# EAGLE library part 0821-1X1T-43-F (library Modular Jacks)
CONN MAGJACK 1PORT 1000 BASE-T Manufacturer's datasheet <https://belfuse.com/resources/drawings/magneticsolutions/dr-mag-0821-1x1t-43-f.pdf>
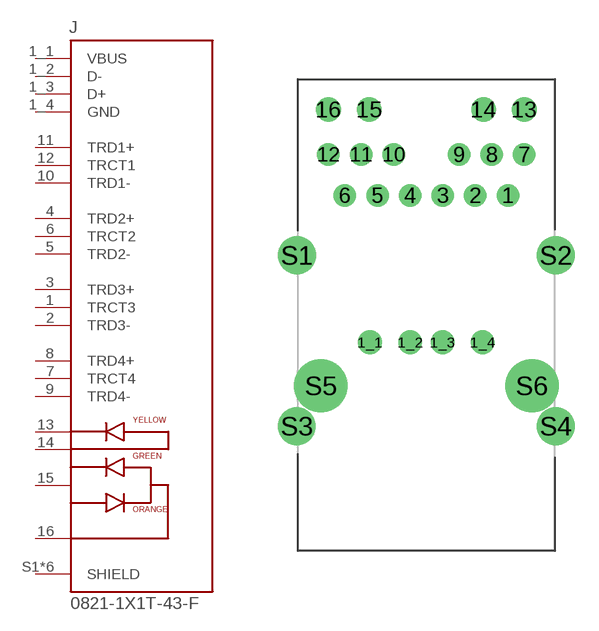
[diagram p9: symbol with the pads of 0821-1X1T-43-F; footprint 0821-1X1T-43-F]

Designator prefix J

## 0821-1X1T-43-F (CREATED_BY: PCBLayout.com; DIGIKEY_PARTNO: 507-1567-ND; MANUFACTURER: Bel Fuse Inc.; MPN: 0821-1X1T-43-F)  [0821-1X1T-43-F]
1  TRCT3  pas
1_1  VBUS  pwr
1_2  D-
1_3  D+
1_4  GND
2  TRD3-  pas
3  TRD3+  pas
4  TRD2+  pas
5  TRD2-  pas
6  TRCT2  pas
7  TRCT4  pas
8  TRD4+  pas
9  TRD4-  pas
10  TRD1-  pas
11  TRD1+  pas
12  TRCT1  pas
13  13  pas
14  14  pas
15  15  pas
16  16  pas
S1  SHIELD  pwr
S2  SHIELD  pwr
S3  SHIELD  pwr
S4  SHIELD  pwr
S5  SHIELD  pwr
S6  SHIELD  pwr

## Footprint 0821-1X1T-43-F (pad centres in mm)
drill 0.89: 1 5.075,9.14; 2 3.045,9.14; 3 1.015,9.14; 4 -1.015,9.14; 5 -3.045,9.14; 6 -5.075,9.14; 7 6.095,11.68; 8 4.065,11.68; 9 2.035,11.68; 10 -2.035,11.68; 11 -4.065,11.68; 12 -6.095,11.68
drill 0.97: 1_1 -3.505,0; 1_2 -1.005,0; 1_3 1.005,0; 1_4 3.505,0
drill 1.02: 13 6.095,14.47; 14 3.555,14.47; 15 -3.555,14.47; 16 -6.095,14.47
drill 1.57: S1 -8.055,5.41; S2 8.055,5.41; S3 -8.065,-5.21; S4 8.065,-5.21
drill 2.31: S5 -6.565,-2.7; S6 6.565,-2.7